# Altium footprint library Nidec.PcbLib: 4 footprints
Each footprint in its own frame and in the unit in brackets; x right, y up, seen from the top. Pads: shape width x height; smd on the part's side, far side on the other; paste and mask are expansions set on the pad; w line width, h text height; cw(c..) or ccw(c..) is an arc to the next point about the centre after c.
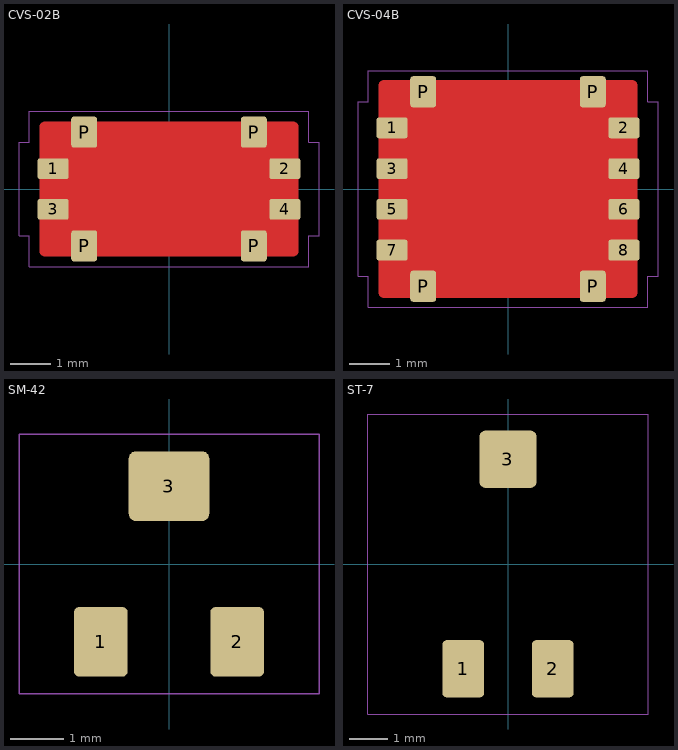
[diagram p0: the footprints below, top view; thin cyan lines are the x and y axes]

## CVS-02B [mil]
pads (8):
  rrect20% 30x20 smd mask+2: 1(-112,19.68) 2(112,19.68) 3(-112,-19.68) 4(112,-19.68)
  rrect20% 25x30 smd mask+2: P(-82,-55) P(-82,55) P(82,-55) P(82,55)
Top Layer:
  pour cut-out: -120,65 -120.99,65 -122.83,64.24 -124.24,62.83 -125,60.99 -125,60 -125,-60 -125,-60.99 -124.24,-62.83 -122.83,-64.24 -120.99,-65 -120,-65 120,-65 120.99,-65 122.83,-64.24 124.24,-62.83 125,-60.99 125,-60 125,60 125,60.99 124.24,62.83 122.83,64.24 120.99,65 120,65
  region: -75,15 -50,0 -50,30
Top Solder:
  text "N" at 30,-40 h30
  text "O" at 30,10 h30
Top Designator:
  text ".Designator" at -127.64,-12.5 h35
Top Courtyard:
  lines w1: -145,-45 -135,-45 -135,-75 135,-75 135,-45 145,-45 145,45 135,45 135,75 -135,75 -135,45 -145,45 -145,-45
3D body "CVS-02TB.stp": height 56.94, standoff -0.94, extent -120.07,-59.06 120.09,59.06

## CVS-04B [mil]
pads (12):
  rrect20% 30x20 smd mask+2: 1(-112,59.06) 2(112,59.06) 3(-112,19.69) 4(112,19.69) 5(-112,-19.68) 6(112,-19.68) 7(-112,-59.05) 8(112,-59.05)
  rrect20% 25x30 smd mask+2: P(-82,-94) P(-82,94) P(82,-94) P(82,94)
Top Layer:
  pour cut-out: -120,105 -120.99,105 -122.83,104.24 -124.24,102.83 -125,100.99 -125,100 -125,-100 -125,-100.99 -124.24,-102.83 -122.83,-104.24 -120.99,-105 -120,-105 120,-105 120.99,-105 122.83,-104.24 124.24,-102.83 125,-100.99 125,-100 125,100 125,100.99 124.24,102.83 122.83,104.24 120.99,105 120,105
  region: -75,54.37 -50,39.37 -50,69.37
Top Solder:
  text "N" at 30,-0.63 h30
  text "O" at 30,49.37 h30
Top Designator:
  text ".Designator" at 12.5,-127.64 h35
Top Courtyard:
  lines w1: -145,-84.37 -145,84.37 -135,84.37 -135,114.37 135,114.37 135,84.37 145,84.37 145,-84.37 135,-84.37 135,-114.37 -135,-114.37 -135,-84.37 -145,-84.37
3D body "CVS-04B.stp": height 56.94, standoff -0.94, extent -120.07,-98.43 120.09,98.43

## SM-42 [mm]
pads (3):
  rrect20% 1x1.3 smd mask+0.051: 1(-1.27,-1.45) 2(1.27,-1.45)
  rrect20% 1.5x1.3 smd mask+0.051: 3(0,1.45)
Top Designator:
  text ".Designator" at -3.242,-0.317 h0.89
Top Courtyard:
  lines w0.025: -2.794,-2.413 2.794,-2.413 2.794,2.413 -2.794,2.413 -2.794,-2.413
3D body "SM-42TW10_(100).stp": height 5.3, standoff 0, extent -2.4,-1.95 2.4,1.95

## ST-7 [mm]
pads (3):
  rrect20% 1.1x1.5 smd mask+0.051: 1(-1.175,-2.75) 2(1.175,-2.75)
  rrect20% 1.5x1.5 smd mask+0.051: 3(0,2.75)
Top Designator:
  text ".Designator" at -3.242,-0.317 h0.89
Top Courtyard:
  lines w0.025: -3.683,-3.937 3.683,-3.937 3.683,3.937 -3.683,3.937 -3.683,-3.937
3D body "ST-7EA50_(500).stp": height 3.4, standoff -0.02, extent -3.2,-3.4 3.2,3.4